# Altium footprint library bch-lib.PcbLib: 86 footprints (part 5 of 6)
Each footprint in its own frame and in the unit in brackets; x right, y up, seen from the top. Pads: shape width x height; smd on the part's side, far side on the other; paste and mask are expansions set on the pad; w line width, h text height; cw(c..) or ccw(c..) is an arc to the next point about the centre after c.
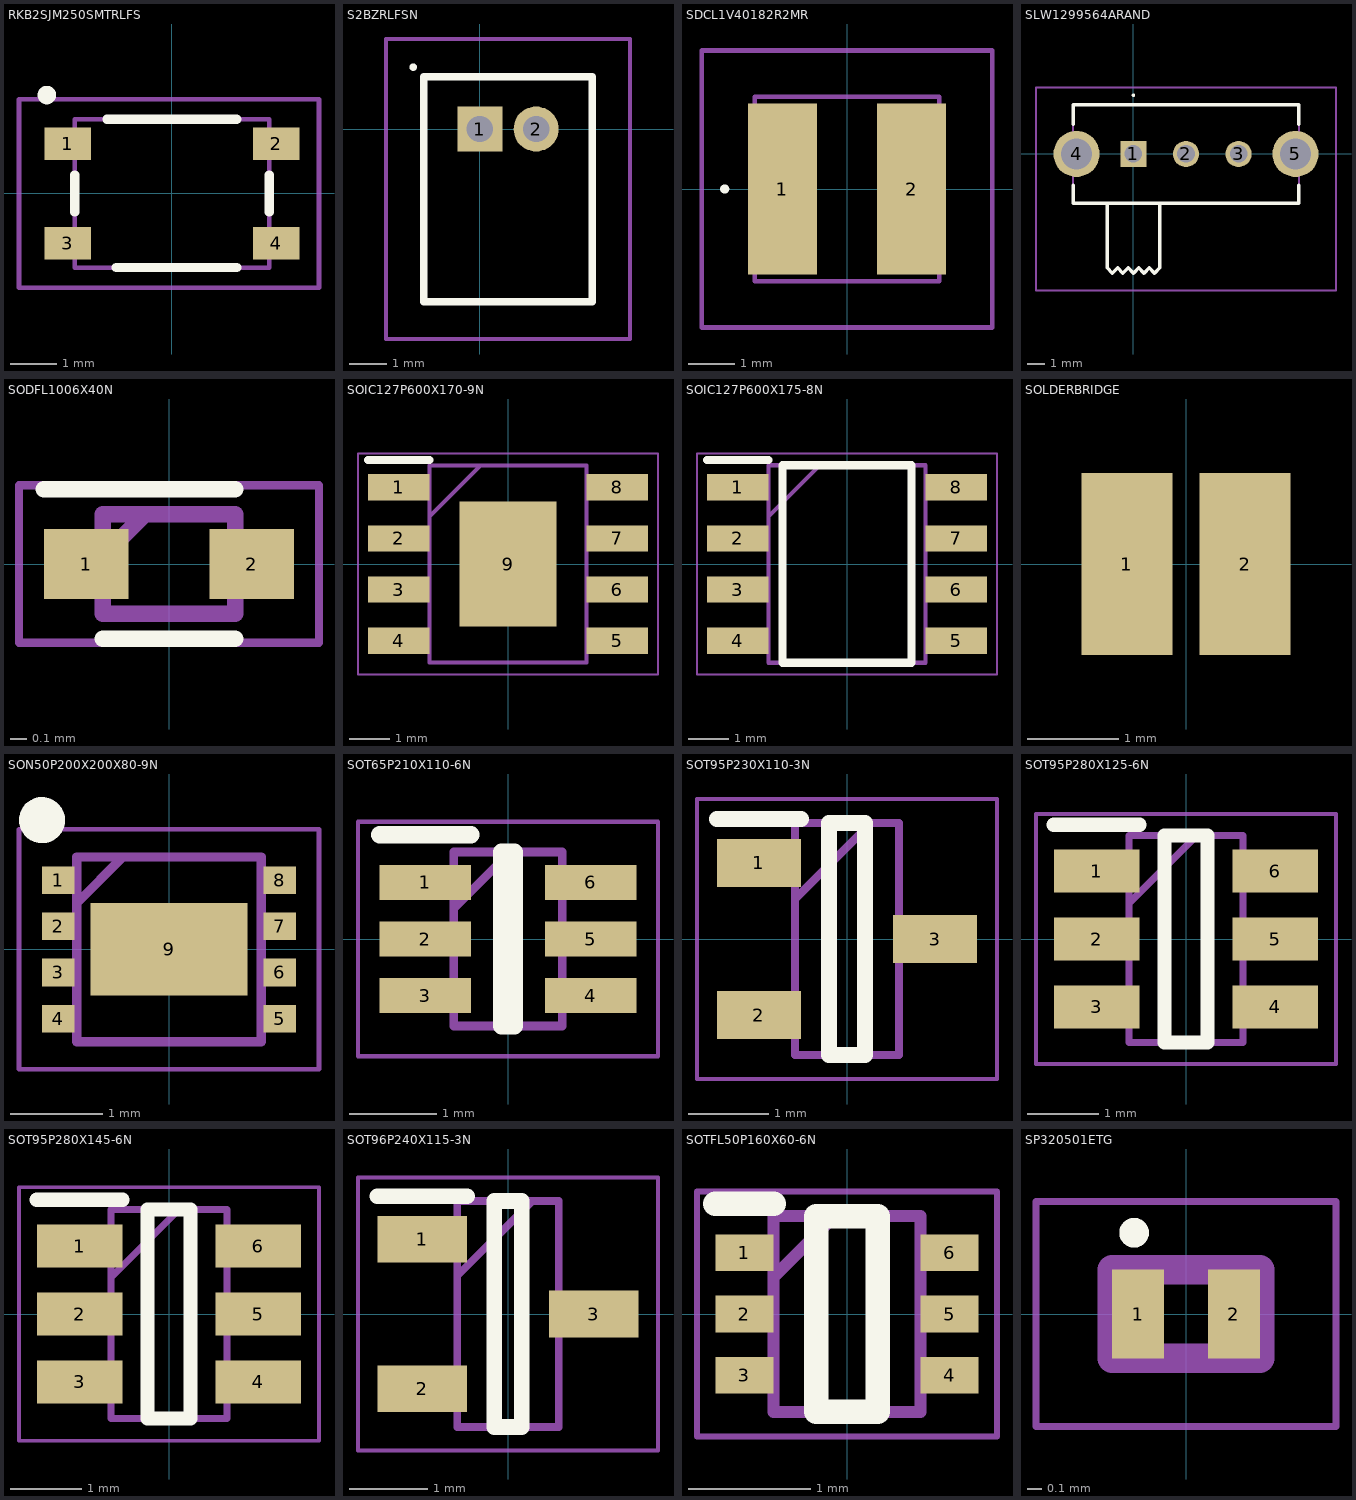
[diagram p4: the footprints below, top view; thin cyan lines are the x and y axes]

## RKB2SJM250SMTRLFS [mm]
pads (4):
  rect 1x0.7 smd: 1(-2.25,1.075) 2(2.25,1.075) 3(-2.25,-1.075) 4(2.25,-1.075)
Top Overlay:
  lines w0.2: -2.8,2.125 ccw(c-2.7,2.125) -2.6,2.125 ccw(c-2.7,2.125) -2.8,2.125 ; -2.1,-0.4 -2.1,0.4 -2.1,-0.4 ; -1.4,1.6 1.4,1.6 -1.4,1.6 ; -1.2,-1.6 1.4,-1.6 -1.2,-1.6 ; 2.1,-0.4 2.1,0.4 2.1,-0.4
Mechanical 13:
  lines w0.1: -2.1,-1.6 -2.1,1.6 2.1,1.6 2.1,-1.6 -2.1,-1.6
Mechanical 15:
  lines w0.1: -3.302,-2.032 -3.302,2.032 3.175,2.032 3.175,-2.032 -3.302,-2.032
3D body "RKB2SJM250SMTR_LFS.stp": height 2.5, standoff 0, extent -2.25,-1.6 2.25,1.6

## S2BZRLFSN [mm]
pads (2):
  rect 1.2x1.2 hole 0.7: 1(0,0)
  round 1.2 hole 0.7: 2(1.5,0)
Top Overlay:
  lines w0.1: -1.828,1.651 ccw(c-1.778,1.651) -1.728,1.651 ccw(c-1.778,1.651) -1.828,1.651
  lines w0.2: -1.5,-4.6 3,-4.6 3,1.4 -1.5,1.4 -1.5,-4.6
Mechanical 13:
  lines w0.1: -1.5,-4.6 3,-4.6 3,1.4 -1.5,1.4 -1.5,-4.6
Mechanical 15:
  lines w0.1: -2.5,-5.6 4,-5.6 4,2.4 -2.5,2.4 -2.5,-5.6
3D body "S2B-ZR(LF)(SN).STEP": height 3.7, standoff -2.17, extent -1.523,-4.616 2.977,1.384

## SDCL1V40182R2MR [mm]
pads (2):
  rect 1.5x3.7 smd: 1(-1.4,0) 2(1.4,0)
Top Overlay:
  lines w0.1: -2.7,0 ccw(c-2.65,0) -2.6,0 ccw(c-2.65,0) -2.7,0
Mechanical 13:
  lines w0.1: -2,-2 2,-2 2,2 -2,2 -2,-2
Mechanical 15:
  lines w0.1: -3.15,-3 3.15,-3 3.15,3 -3.15,3 -3.15,-3
3D body "SDCL1V4018-2R2M-R.stp": height 1.62, standoff 0, extent -2,-2.06 2,2.063

## SLW1299564ARAND [mm]
pads (5):
  rect 1.5x1.5 hole 1: 1(0,0)
  round 1.5 hole 1: 2(3,0) 3(6,0)
  round 2.625 hole 1.75: 4(-3.25,0) 5(9.25,0)
Top Overlay:
  lines w0.1: 0,3.3 cw(c0,3.35) 0,3.4 cw(c0,3.35) 0,3.3
  lines w0.2: -3.45,-1.8 -3.45,-2.8 9.45,-2.8 9.45,-1.8 ; -3.45,1.7 -3.45,2.8 9.45,2.8 9.45,1.7 ; -1.5,-2.8 -1.5,-6.5 -1.2,-6.8 -0.9,-6.5 -0.6,-6.8 -0.3,-6.5 0,-6.8 0.3,-6.5 0.6,-6.8 0.9,-6.5 1.2,-6.8 1.5,-6.5 1.5,-2.8
Mechanical 13:
  lines w0.1: -1.5,-2.8 -1.5,-6.5 -1.2,-6.8 -0.9,-6.5 -0.6,-6.8 -0.3,-6.5 0,-6.8 0.3,-6.5 0.6,-6.8 0.9,-6.5 1.2,-6.8 1.5,-6.5 1.5,-2.8 ; -3.45,-2.8 9.45,-2.8 9.45,2.8 -3.45,2.8 -3.45,-2.8
Mechanical 15:
  lines w0.1: -5.563,-7.8 11.563,-7.8 11.563,3.8 -5.563,3.8 -5.563,-7.8
3D body "SLW-129956-4A-RA-N-D.stp": height 6, standoff -3, extent -3.45,-6.8 9.45,2.8

## SODFL1006X40N [mm]
pads (2):
  rect 0.51x0.42 smd: 1(-0.5,0) 2(0.5,0)
Top Overlay:
  lines w0.1: -0.755,0.45 0.4,0.45 ; -0.4,-0.45 0.4,-0.45
Mechanical 13:
  lines w0.1: -0.4,0.045 -0.145,0.3 ; -0.4,-0.3 -0.4,0.3 0.4,0.3 0.4,-0.3 -0.4,-0.3
Mechanical 15:
  lines w0.05: -0.905,-0.475 -0.905,0.475 0.905,0.475 0.905,-0.475 -0.905,-0.475
3D body "D5V0L1B2S9-7.stp": height 0.4, standoff 0, extent -0.5,-0.3 0.5,0.3

## SOIC127P600X170-9N [mm]
pads (9):
  rect 1.525x0.65 smd: 1(-2.712,1.905) 2(-2.712,0.635) 3(-2.712,-0.635) 4(-2.712,-1.905) 5(2.712,-1.905) 6(2.712,-0.635) 7(2.712,0.635) 8(2.712,1.905)
  rect 2.4x3.1 smd: 9(0,0)
Top Overlay:
  lines w0.2: -3.475,2.58 -1.95,2.58
Mechanical 13:
  lines w0.1: -1.95,1.18 -0.68,2.45 ; -1.95,-2.45 1.95,-2.45 1.95,2.45 -1.95,2.45 -1.95,-2.45
Mechanical 15:
  lines w0.05: -3.725,-2.75 3.725,-2.75 3.725,2.75 -3.725,2.75 -3.725,-2.75
3D body "DRV8871DDAR.stp": height 1.7, standoff 0, extent -3,-2.45 3,2.45

## SOIC127P600X175-8N [mm]
pads (8):
  rect 1.528x0.65 smd: 1(-2.711,1.905) 2(-2.711,0.635) 3(-2.711,-0.635) 4(-2.711,-1.905) 5(2.711,-1.905) 6(2.711,-0.635) 7(2.711,0.635) 8(2.711,1.905)
Top Overlay:
  lines w0.2: -3.475,2.58 -1.948,2.58 ; -1.598,-2.452 -1.598,2.452 1.598,2.452 1.598,-2.452 -1.598,-2.452
Mechanical 13:
  lines w0.1: -1.948,1.182 -0.678,2.452 ; -1.948,-2.452 -1.948,2.452 1.948,2.452 1.948,-2.452 -1.948,-2.452
Mechanical 15:
  lines w0.05: -3.725,-2.75 -3.725,2.75 3.725,2.75 3.725,-2.75 -3.725,-2.75
3D body "OPA2607IDR.stp": height 1.63, standoff 0, extent -3.011,-2.451 3.011,2.451

## SOLDERBRIDGE [mm]
pads (2):
  rect 1x2 smd: 1(-0.65,0) 2(0.65,0)

## SON50P200X200X80-9N [mm]
pads (9):
  rect 0.35x0.3 smd: 1(-1.2,0.75) 2(-1.2,0.25) 3(-1.2,-0.25) 4(-1.2,-0.75) 5(1.2,-0.75) 6(1.2,-0.25) 7(1.2,0.25) 8(1.2,0.75)
  rect 1.7x1 smd: 9(0,0)
Top Overlay:
  circle w0.25: c-1.375,1.4 r0.125
Mechanical 13:
  lines w0.1: -1,0.5 -0.5,1 ; -1,-1 -1,1 1,1 1,-1 -1,-1
Mechanical 15:
  lines w0.05: -1.625,-1.3 -1.625,1.3 1.625,1.3 1.625,-1.3 -1.625,-1.3
3D body "DRV8213DSGR.stp": height 0.8, standoff 0, extent -1.05,-1 1.05,1

## SOT65P210X110-6N [mm]
pads (6):
  rect 1.05x0.4 smd: 1(-0.95,0.65) 2(-0.95,0) 3(-0.95,-0.65) 4(0.95,-0.65) 5(0.95,0) 6(0.95,0.65)
Top Overlay:
  lines w0.2: -1.475,1.2 -0.425,1.2 ; -0.075,-1 -0.075,1 0.075,1 0.075,-1 -0.075,-1
Mechanical 13:
  lines w0.1: -0.625,0.35 0.025,1 ; -0.625,-1 -0.625,1 0.625,1 0.625,-1 -0.625,-1
Mechanical 15:
  lines w0.05: -1.725,-1.35 -1.725,1.35 1.725,1.35 1.725,-1.35 -1.725,-1.35
3D body "NUF2221W1T2G.stp": height 1.1, standoff 0, extent -1.05,-1 1.05,1

## SOT95P230X110-3N [mm]
pads (3):
  rect 1.05x0.6 smd: 1(-1.1,0.95) 2(-1.1,-0.95) 3(1.1,0)
Top Overlay:
  lines w0.2: -1.625,1.5 -0.575,1.5 ; -0.225,-1.45 -0.225,1.45 0.225,1.45 0.225,-1.45 -0.225,-1.45
Mechanical 13:
  lines w0.1: -0.65,0.5 0.3,1.45 ; -0.65,-1.45 -0.65,1.45 0.65,1.45 0.65,-1.45 -0.65,-1.45
Mechanical 15:
  lines w0.05: -1.875,-1.75 -1.875,1.75 1.875,1.75 1.875,-1.75 -1.875,-1.75
3D body "PMV41XPAR.stp": height 0.95, standoff 0, extent -1.201,-1.448 1.199,1.452

## SOT95P280X125-6N [mm]
pads (6):
  rect 1.2x0.6 smd: 1(-1.25,0.95) 2(-1.25,0) 3(-1.25,-0.95) 4(1.25,-0.95) 5(1.25,0) 6(1.25,0.95)
Top Overlay:
  lines w0.2: -1.85,1.6 -0.65,1.6 ; -0.3,-1.45 -0.3,1.45 0.3,1.45 0.3,-1.45 -0.3,-1.45
Mechanical 13:
  lines w0.1: -0.8,0.5 0.15,1.45 ; -0.8,-1.45 -0.8,1.45 0.8,1.45 0.8,-1.45 -0.8,-1.45
Mechanical 15:
  lines w0.05: -2.1,-1.75 -2.1,1.75 2.1,1.75 2.1,-1.75 -2.1,-1.75
3D body "AT2659S.stp": height 1.25, standoff 0, extent -1.4,-1.45 1.4,1.45

## SOT95P280X145-6N [mm]
pads (6):
  rect 1.2x0.6 smd: 1(-1.25,0.95) 2(-1.25,0) 3(-1.25,-0.95) 4(1.25,-0.95) 5(1.25,0) 6(1.25,0.95)
Top Overlay:
  lines w0.2: -1.85,1.6 -0.65,1.6 ; -0.3,-1.462 -0.3,1.462 0.3,1.462 0.3,-1.462 -0.3,-1.462
Mechanical 13:
  lines w0.1: -0.812,0.512 0.138,1.462 ; -0.812,-1.462 -0.812,1.462 0.812,1.462 0.812,-1.462 -0.812,-1.462
Mechanical 15:
  lines w0.05: -2.1,-1.775 -2.1,1.775 2.1,1.775 2.1,-1.775 -2.1,-1.775
3D body "USBLC6-2SC6Y.stp": height 1.45, standoff 0, extent -1.4,-1.462 1.4,1.462

## SOT96P240X115-3N [mm]
pads (3):
  rect 1.15x0.6 smd: 1(-1.1,0.96) 2(-1.1,-0.96) 3(1.1,0)
Top Overlay:
  lines w0.2: -1.675,1.51 -0.525,1.51 ; -0.175,-1.45 -0.175,1.45 0.175,1.45 0.175,-1.45 -0.175,-1.45
Mechanical 13:
  lines w0.1: -0.65,0.49 0.31,1.45 ; -0.65,-1.45 -0.65,1.45 0.65,1.45 0.65,-1.45 -0.65,-1.45
Mechanical 15:
  lines w0.05: -1.925,-1.75 -1.925,1.75 1.925,1.75 1.925,-1.75 -1.925,-1.75
3D body "DMP2045U-7.stp": height 1.15, standoff 0, extent -1.2,-1.45 1.2,1.45

## SOTFL50P160X60-6N [mm]
pads (6):
  rect 0.475x0.3 smd: 1(-0.838,0.5) 2(-0.838,0) 3(-0.838,-0.5) 4(0.838,-0.5) 5(0.838,0) 6(0.838,0.5)
Top Overlay:
  lines w0.2: -1.075,0.9 -0.6,0.9 ; -0.25,-0.8 -0.25,0.8 0.25,0.8 0.25,-0.8 -0.25,-0.8
Mechanical 13:
  lines w0.1: -0.6,0.3 -0.1,0.8 ; -0.6,-0.8 -0.6,0.8 0.6,0.8 0.6,-0.8 -0.6,-0.8
Mechanical 15:
  lines w0.05: -1.225,-1 -1.225,1 1.225,1 1.225,-1 -1.225,-1
3D body "TPS563252DRLR.stp": height 0.6, standoff 0, extent -0.8,-0.78 0.8,0.82

## SP320501ETG [mm]
pads (2):
  rect 0.35x0.6 smd: 1(-0.325,0) 2(0.325,0)
Top Overlay:
  lines w0.1: -0.401,0.55 ccw(c-0.351,0.55) -0.301,0.55 ccw(c-0.351,0.55) -0.401,0.55
Mechanical 13:
  lines w0.2: -0.5,-0.3 -0.5,0.3 0.5,0.3 0.5,-0.3 -0.5,-0.3
Mechanical 15:
  lines w0.05: -1.016,-0.762 -1.016,0.762 1.016,0.762 1.016,-0.762 -1.016,-0.762
3D body "SP3205-01ETG.stp": height 0.5, standoff 0, extent -0.5,-0.304 0.5,0.304